# Altium integrated library TI Power Management Power Modules.IntLib: 831 symbols (part 43 of 44)
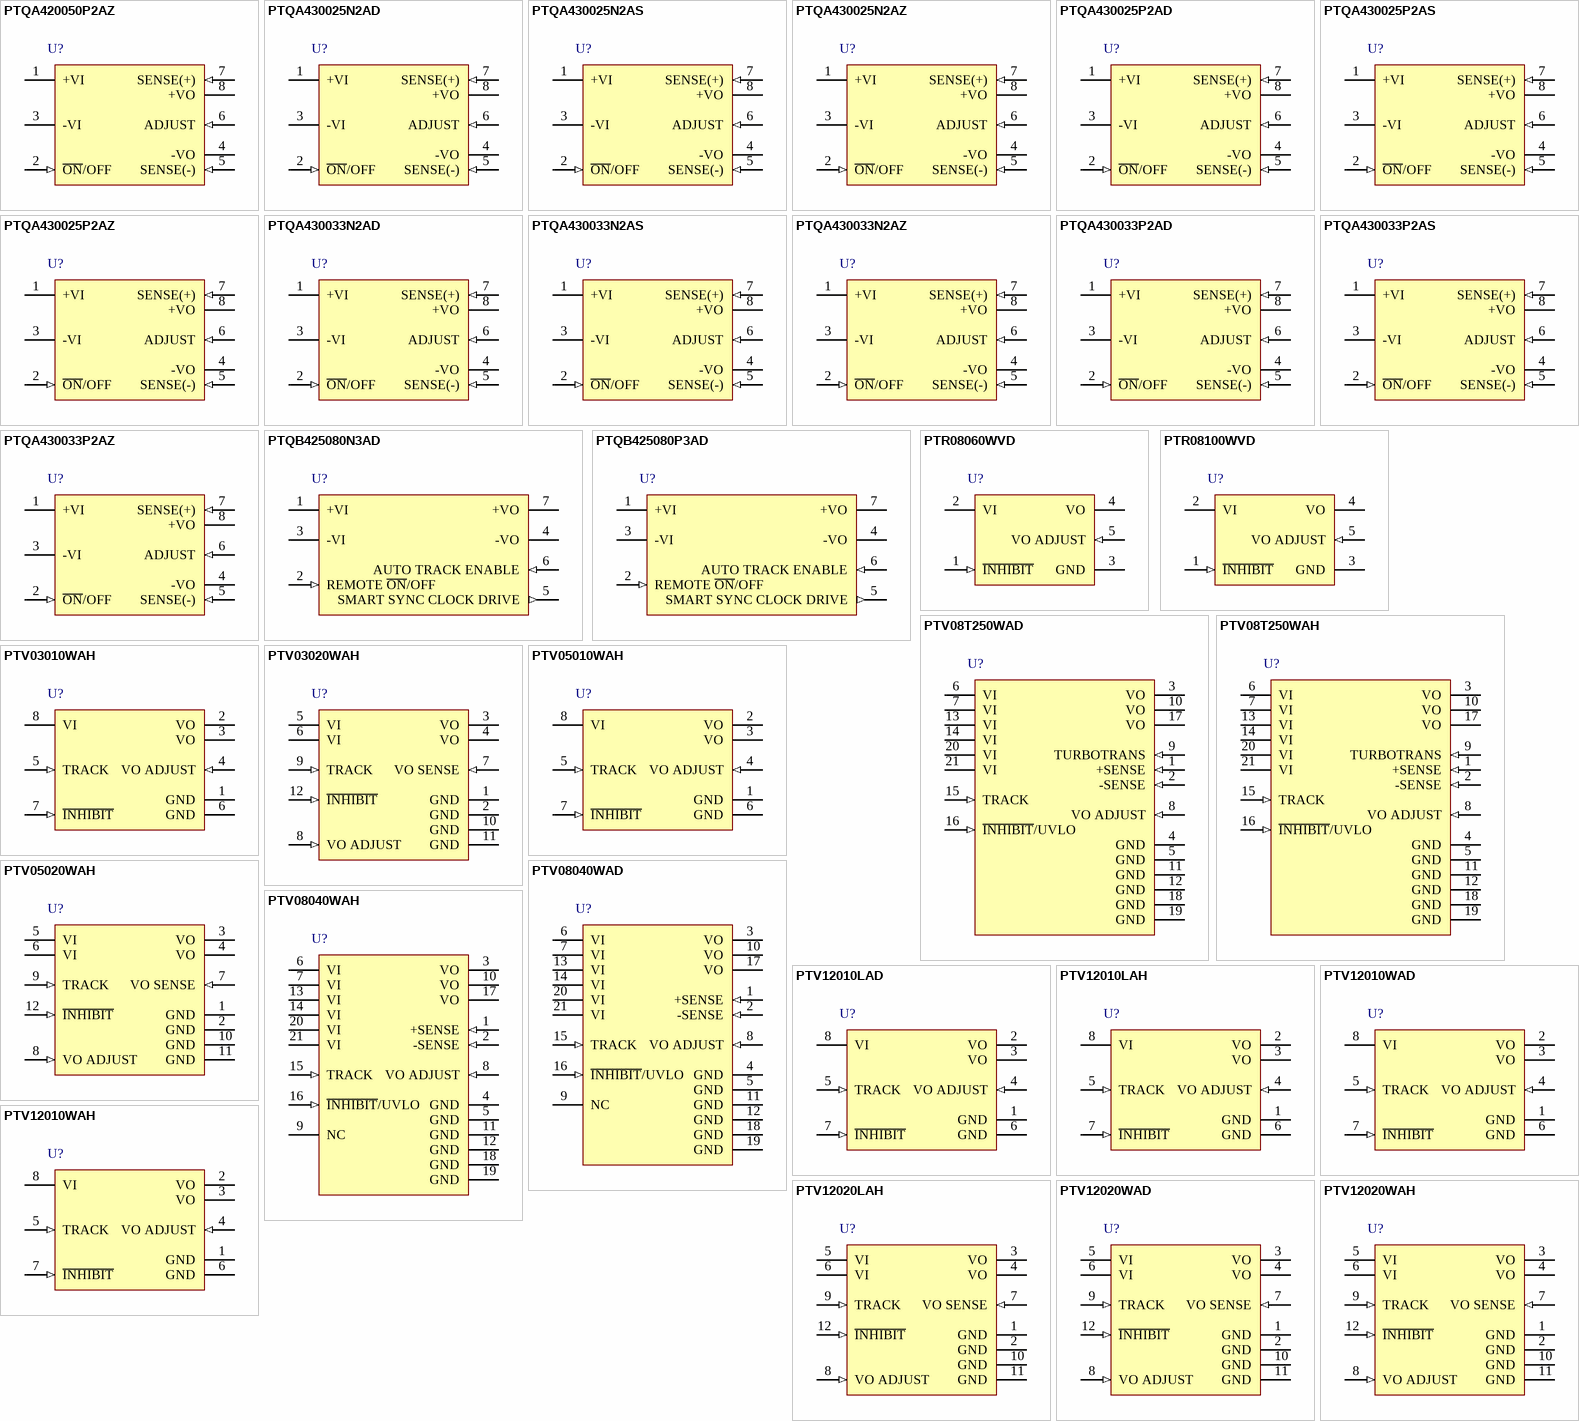
[diagram p65: symbols PTQA420050P2AZ to PTV12020WAH]

## PTR08100WVD
designator U?
10 A, 4.5 to 14 V Input, Non-Isolated, Wide Output, Adjustable Power Module, -40 to 85 degC, 5-pin Module (EDN5), Pb-Free (RoHS); Manufacturer: Texas Instruments; PartNumber: PTR08100WVD; Iout(Max)(A): 10; Regulated Outputs(#): 1; SubFamily: Step-Down (Buck) Module; Vin(Max)(V): 14; Vin(Min)(V): 4.5; VO Adjustable: TRUE; Vout(Max)(V): 5.5; Vout(Min)(V): 0.6; DatasheetVersion: SLTS284F; PackageVersion: 4208200/A; PackageReference: EDN5; PackageDescription: 5-Pin Plastic Special Shape, Body 16.51 x 10.41 mm; Supplier 1: Digi-Key; Supplier Part Number 1: 296-22773-5-ND; Supplier 2: Farnell; Supplier Part Number 2: 1755102; Supplier 3: Newark; Supplier Part Number 3: 93R5609; Supplier 4: Newark; Supplier Part Number 4: 61M8461; Supplier 5: Mouser; Supplier Part Number 5: 595-PTR08100WVD; Eco-Plan: Pb-Free (RoHS); Mounting Technology: Through Hole; ComponentLink1Description: Manufacturer URL; ComponentLink1URL: http://www.ti.com/; ComponentLink2Description: Datasheet; ComponentLink2URL: http://www.ti.com/general/docs/lit/getliterature.tsp?genericPartNumber=PTR08100W&fileType=pdf; ComponentLink3Description: Package Specification; ComponentLink3URL: http://www.ti.com/lit/ml/mpds303/mpds303.pdf; ComponentLink4Description: URL Link1; ComponentLink4URL: Samples URL:http://www.ti.com/product/ptr08100w
footprint TI-EDN5_V (Moudle, 5-Leads, Body 11.5x10.41mm, Pitch 1.7mm)
pins: 1 ~{INHIBIT} (in) "The Inhibit pin is an open-collector/drain-negative logic input that is referenced to GND. Applying a low-level ground signal to this input disables the module's output. When the Inhibit control is active, the input current (See Datasheet)", 2 VI (power) "The positive input voltage power node to the module, which is referenced to common GND.", 3 GND (power) "This is the common ground connection for the VI and VO power connections. It is also the 0 VDC reference for the Inhibit and VO Adjust control inputs.", 4 VO (power) "The regulated positive power output with respect to the GND node.", 5 VO ADJUST (in) "A 1% resistor must be connected between this pin and GND (pin 3) to set the output voltage of the module higher than 0.6 V. If left open-circuit, the output voltage defaults to this value. The temperature stability of the (See Datasheet)"

## PTV08T250WAD
designator U?
50 A, 8 to 14 V Input, Non-Isolated, Wide Output Adjust, Vertical Power Module with TurboTrans Technology, -40 to 85 degC, 21-pin Module (EAN21), Pb-Free (RoHS); Manufacturer: Texas Instruments; PartNumber: PTV08T250WAD; Iout(Max)(A): 50; Regulated Outputs(#): 1; SubFamily: Non-Isolated POL; Vin(Max)(V): 14; Vin(Min)(V): 8; VO Adjustable: TRUE; Vout(Max)(V): 3.6; Vout(Min)(V): 0.8; DatasheetVersion: SLTS260E; PackageVersion: 4207274/A; PackageReference: EAN21; PackageDescription: 21-Pin Plastic Special Shape, Body 24.13 x 58.42 mm; Supplier 1: Digi-Key; Supplier Part Number 1: 296-20529-ND; Supplier 2: Newark; Supplier Part Number 2: 66K4122; Supplier 3: Mouser; Supplier Part Number 3: 595-PTV08T250WAD; Eco-Plan: Pb-Free (RoHS); Mounting Technology: Surface Mount; ComponentLink1Description: Manufacturer URL; ComponentLink1URL: http://www.ti.com/; ComponentLink2Description: Datasheet; ComponentLink2URL: http://www.ti.com/general/docs/lit/getliterature.tsp?genericPartNumber=PTV08T250W&fileType=pdf; ComponentLink3Description: Package Specification; ComponentLink3URL: http://www.ti.com/lit/ml/mpds223/mpds223.pdf; ComponentLink4Description: URL Link1; ComponentLink4URL: Samples URL:http://www.ti.com/product/ptv08t250w#samples
footprint TI-EAN21_V (21-Leads Double Sided Module, Body 59.94x9.39mm)
pins: 1 +SENSE (in) "The sense inputs allow the regulation circuit to compensate for voltage drop between the module and the load. For optimal voltage accuracy, +Sense should be connected to VO. If it is left open, a low-value internal resistor (See Datasheet)", 2 -SENSE (in) "For optimal voltage accuracy, -Sense should be connected to the ground return at the load. If it is left open, a low-value internal resistor ensures that the output remains in regulation.", 3 VO (power) "The regulated positive power output with respect to GND", 4 GND (power) "This is the common ground connection for the VI and VO power connections. It is also the 0 Vdc reference for the control inputs.", 5 GND (power) "This is the common ground connection for the VI and VO power connections. It is also the 0 Vdc reference for the control inputs.", 6 VI (power) "The positive input voltage power node to the module, which is referenced to common GND", 7 VI (power) "The positive input voltage power node to the module, which is referenced to common GND", 8 VO ADJUST (in) "A 1%, 0.05-W resistor must be connected between this pin and GND to set the output voltage higher than the minimum value. The set-point range for the output voltage is from 0.8 V to 3.6 V. The resistor required for a given (See Datasheet)", 9 TURBOTRANS (in) "This input pin adjusts the transient response of the regulator. For a given value of output capacitance, a reduction in peak output voltage deviation and increased system stability is achieved by placing a resistor between (See Datasheet)", 10 VO (power) "The regulated positive power output with respect to GND", 11 GND (power) "This is the common ground connection for the VI and VO power connections. It is also the 0 Vdc reference for the control inputs.", 12 GND (power) "This is the common ground connection for the VI and VO power connections. It is also the 0 Vdc reference for the control inputs.", 13 VI (power) "The positive input voltage power node to the module, which is referenced to common GND", 14 VI (power) "The positive input voltage power node to the module, which is referenced to common GND", 15 TRACK (in) "This is an analog control input that allows the output voltage to follow another voltage during power up and power down sequences. The pin is active from 0 V, up to the nominal set-point voltage. Within this range, the (See Datasheet)", 16 ~{INHIBIT}/UVLO (in) "The Inhibit pin is an open-collector/drain negative logic input that is referenced to GND. Applying a low-level ground signal to this input disables the module’s output and turns off the output voltage. When the Inhibit (See Datasheet)", 17 VO (power) "The regulated positive power output with respect to GND", 18 GND (power) "This is the common ground connection for the VI and VO power connections. It is also the 0 Vdc reference for the control inputs.", 19 GND (power) "This is the common ground connection for the VI and VO power connections. It is also the 0 Vdc reference for the control inputs.", 20 VI (power) "The positive input voltage power node to the module, which is referenced to common GND", 21 VI (power) "The positive input voltage power node to the module, which is referenced to common GND"

## PTV08T250WAH
designator U?
50 A, 8 to 14 V Input, Non-Isolated, Wide Output Adjust, Vertical Power Module with TurboTrans Technology, -40 to 85 degC, 21-pin Module (EAN21); Manufacturer: Texas Instruments; PartNumber: PTV08T250WAH; Eco-Plan: TBD; Iout(Max)(A): 50; Regulated Outputs(#): 1; SubFamily: Non-Isolated POL; Vin(Max)(V): 14; Vin(Min)(V): 8; VO Adjustable: TRUE; Vout(Max)(V): 3.6; Vout(Min)(V): 0.8; DatasheetVersion: SLTS260E; PackageVersion: 4207274/A; PackageReference: EAN21; PackageDescription: 21-Pin Plastic Special Shape, Body 24.13 x 58.42 mm; Supplier 1: Digi-Key; Supplier Part Number 1: 296-20530-ND; Supplier 2: Newark; Supplier Part Number 2: 66K4123; Supplier 3: Mouser; Supplier Part Number 3: 595-PTV08T250WAH; Mounting Technology: Surface Mount; ComponentLink1Description: Manufacturer URL; ComponentLink1URL: http://www.ti.com/; ComponentLink2Description: Datasheet; ComponentLink2URL: http://www.ti.com/general/docs/lit/getliterature.tsp?genericPartNumber=PTV08T250W&fileType=pdf; ComponentLink3Description: Package Specification; ComponentLink3URL: http://www.ti.com/lit/ml/mpds223/mpds223.pdf; ComponentLink4Description: URL Link1; ComponentLink4URL: Samples URL:http://www.ti.com/product/ptv08t250w#samples
footprint TI-EAN21_V (21-Leads Double Sided Module, Body 59.94x9.39mm)
pins: 1 +SENSE (in) "The sense inputs allow the regulation circuit to compensate for voltage drop between the module and the load. For optimal voltage accuracy, +Sense should be connected to VO. If it is left open, a low-value internal resistor (See Datasheet)", 2 -SENSE (in) "For optimal voltage accuracy, -Sense should be connected to the ground return at the load. If it is left open, a low-value internal resistor ensures that the output remains in regulation.", 3 VO (power) "The regulated positive power output with respect to GND", 4 GND (power) "This is the common ground connection for the VI and VO power connections. It is also the 0 Vdc reference for the control inputs.", 5 GND (power) "This is the common ground connection for the VI and VO power connections. It is also the 0 Vdc reference for the control inputs.", 6 VI (power) "The positive input voltage power node to the module, which is referenced to common GND", 7 VI (power) "The positive input voltage power node to the module, which is referenced to common GND", 8 VO ADJUST (in) "A 1%, 0.05-W resistor must be connected between this pin and GND to set the output voltage higher than the minimum value. The set-point range for the output voltage is from 0.8 V to 3.6 V. The resistor required for a given (See Datasheet)", 9 TURBOTRANS (in) "This input pin adjusts the transient response of the regulator. For a given value of output capacitance, a reduction in peak output voltage deviation and increased system stability is achieved by placing a resistor between (See Datasheet)", 10 VO (power) "The regulated positive power output with respect to GND", 11 GND (power) "This is the common ground connection for the VI and VO power connections. It is also the 0 Vdc reference for the control inputs.", 12 GND (power) "This is the common ground connection for the VI and VO power connections. It is also the 0 Vdc reference for the control inputs.", 13 VI (power) "The positive input voltage power node to the module, which is referenced to common GND", 14 VI (power) "The positive input voltage power node to the module, which is referenced to common GND", 15 TRACK (in) "This is an analog control input that allows the output voltage to follow another voltage during power up and power down sequences. The pin is active from 0 V, up to the nominal set-point voltage. Within this range, the (See Datasheet)", 16 ~{INHIBIT}/UVLO (in) "The Inhibit pin is an open-collector/drain negative logic input that is referenced to GND. Applying a low-level ground signal to this input disables the module’s output and turns off the output voltage. When the Inhibit (See Datasheet)", 17 VO (power) "The regulated positive power output with respect to GND", 18 GND (power) "This is the common ground connection for the VI and VO power connections. It is also the 0 Vdc reference for the control inputs.", 19 GND (power) "This is the common ground connection for the VI and VO power connections. It is also the 0 Vdc reference for the control inputs.", 20 VI (power) "The positive input voltage power node to the module, which is referenced to common GND", 21 VI (power) "The positive input voltage power node to the module, which is referenced to common GND"

## PTV03010WAH
designator U?
8 A, 3.3 V Input Non-Isolated Wide-Output Adjust with Auto-Track, -40 to 85 degC, 8-pin Module (EVA8), Pb-Free (RoHS); Manufacturer: Texas Instruments; PartNumber: PTV03010WAH; Iout(Max)(A): 8; Regulated Outputs(#): 1; SubFamily: Step-Down (Buck) Module; Vin(Max)(V): 3.65; Vin(Min)(V): 2.95; VO Adjustable: TRUE; Vout(Max)(V): 2.5; Vout(Min)(V): 0.8; DatasheetVersion: SLTS241A; PackageVersion: 4205909/A; PackageReference: EVA8; PackageDescription: 8-Pin Plastic Special Shape, Body 10.15 x 22.86 mm; Supplier 1: Digi-Key; Supplier Part Number 1: 296-20986-ND; Supplier 2: Newark; Supplier Part Number 2: 24K4729; Supplier 3: Mouser; Supplier Part Number 3: 595-PTV03010WAH; Eco-Plan: Pb-Free (RoHS); Mounting Technology: Through Hole; ComponentLink1Description: Manufacturer URL; ComponentLink1URL: http://www.ti.com/; ComponentLink2Description: Datasheet; ComponentLink2URL: http://www.ti.com/general/docs/lit/getliterature.tsp?genericPartNumber=PTV03010W&fileType=pdf; ComponentLink3Description: Package Specification; ComponentLink3URL: http://www.ti.com/lit/ml/mpds163/mpds163.pdf; ComponentLink4Description: URL Link1; ComponentLink4URL: Samples URL:http://www.ti.com/product/ptv03010w
footprint TI-EVA8_V (Module, 8-Leads, Body 22.86x8.38mm)
pins: 1 GND (power) "This is the common ground connection for the VI and VO power connections. It is also the 0 VDC reference for the control inputs.", 2 VO (power) "The regulated positive power output with respect to the GND node.", 3 VO (power) "The regulated positive power output with respect to the GND node.", 4 VO ADJUST (in) "A 1% resistor must be connected directly between this pin and GND (pin 1) to set the output voltage of the module higher than its lowest value. The temperature stability of the resistor should be 100 ppm/degreesC (or better).(See Datasheet)", 5 TRACK (in) "This is an analog control input that enables the output voltage to follow an external voltage. This pin becomes active typically 20 ms after the input voltage has been applied, and allows direct control of the output voltage (See Datasheet)", 6 GND (power) "This is the common ground connection for the VI and VO power connections. It is also the 0 VDC reference for the control inputs.", 7 ~{INHIBIT} (in) "The Inhibit pin is an open-collector/drain, active-low input that is referenced to GND. Applying a low-level ground signal to this input disables the module’s output and turns off the output voltage. When the Inhibit control (See Datasheet)", 8 VI (power) "The positive input voltage power node to the module, which is referenced to common GND."

## PTV03020WAH
designator U?
18 A, 3.3 V Input Non-Isolated Wide-Output Adjust SIP Module with AutoTrack, -40 to 85 degC, 12-pin Module (EVC12), Pb-Free (RoHS); Manufacturer: Texas Instruments; PartNumber: PTV03020WAH; Iout(Max)(A): 18; Regulated Outputs(#): 1; SubFamily: Step-Down (Buck) Module; Vin(Max)(V): 3.6; Vin(Min)(V): 2.95; VO Adjustable: TRUE; Vout(Max)(V): 2.5; Vout(Min)(V): 0.8; DatasheetVersion: SLTS243A; PackageVersion: 4205910/B; PackageReference: EVC12; PackageDescription: 12-Pin Plastic Special Shape, Body 12.7 x 44.45 mm; Supplier 1: Digi-Key; Supplier Part Number 1: 296-20987-ND; Supplier 2: Newark; Supplier Part Number 2: 24K4730; Supplier 3: Mouser; Supplier Part Number 3: 595-PTV03020WAH; Eco-Plan: Pb-Free (RoHS); Mounting Technology: Surface Mount; ComponentLink1Description: Manufacturer URL; ComponentLink1URL: http://www.ti.com/; ComponentLink2Description: Datasheet; ComponentLink2URL: http://www.ti.com/general/docs/lit/getliterature.tsp?genericPartNumber=PTV03020W&fileType=pdf; ComponentLink3Description: Package Specification; ComponentLink3URL: http://www.ti.com/lit/ml/mpds164a/mpds164a.pdf; ComponentLink4Description: URL Link1; ComponentLink4URL: Samples URL:http://www.ti.com/product/ptv03020w
footprint TI-EVC12_V (12-Leads Double Sided Module, Body 44.45x9.39mm)
pins: 1 GND (power) "This  is the common ground connection for the VI and VO power connections. It is also the 0-Vdc reference for the control inputs.", 2 GND (power) "This  is the common ground connection for the VI and VO power connections. It is also the 0-Vdc reference for the control inputs.", 3 VO (power) "The regulated positive power output with respect to the GND node.", 4 VO (power) "The regulated positive power output with respect to the GND node.", 5 VI (power) "The positive input voltage power node to the module, which is referenced to common GND.", 6 VI (power) "The positive input voltage power node to the module, which is referenced to common GND.", 7 VO SENSE (in) "The sense input allows the regulation circuit to compensate for voltage drop between the module and the load. For optime voltage accuracy VO Sense should be connected to VO . It can also be left disconnected.", 8 VO ADJUST (in) "A 1% resistor must be connected directly between this pin and GND (pin 1 or 2) to set the output voltage of the module higher than its lowest value. The temperature stability of the resistor should be 100 ppm/degreesC (or (See Datasheet)", 9 TRACK (in) "This is an analog control input that enables the output voltage to follow an external voltage. This pin becomes active typically 20 ms after the input voltage has been applied, and allows direct control of the output voltage (See Datasheet)", 10 GND (power) "This  is the common ground connection for the VI and VO power connections. It is also the 0-Vdc reference for the control inputs.", 11 GND (power) "This  is the common ground connection for the VI and VO power connections. It is also the 0-Vdc reference for the control inputs.", 12 ~{INHIBIT} (in) "The Inhibit pin is an open-collector/drain, active-low input that is referenced to GND. Applying a low-level ground signal to this input disables the module's output and turns off the output voltage. when the Inhibit control (See Datasheet)"

## PTV05010WAH
designator U?
8 A, 5 V Input Non-Isolated Wide-Output Adjust SIP Module with Auto-Track, -40 to 85 degC, 8-pin Module (EVA8), Pb-Free (RoHS); Manufacturer: Texas Instruments; PartNumber: PTV05010WAH; Iout(Max)(A): 8; Regulated Outputs(#): 1; SubFamily: Step-Down (Buck) Module; Vin(Max)(V): 5.5; Vin(Min)(V): 4.5; VO Adjustable: TRUE; Vout(Max)(V): 3.6; Vout(Min)(V): 0.8; DatasheetVersion: SLTS242A; PackageVersion: 4205909/A; PackageReference: EVA8; PackageDescription: 8-Pin Plastic Special Shape, Body 10.15 x 22.86 mm; Supplier 1: Digi-Key; Supplier Part Number 1: 296-20988-ND; Supplier 2: Newark; Supplier Part Number 2: 24K4732; Supplier 3: Mouser; Supplier Part Number 3: 595-PTV05010WAH; Eco-Plan: Pb-Free (RoHS); Mounting Technology: Through Hole; ComponentLink1Description: Manufacturer URL; ComponentLink1URL: http://www.ti.com/; ComponentLink2Description: Datasheet; ComponentLink2URL: http://www.ti.com/general/docs/lit/getliterature.tsp?genericPartNumber=PTV05010W&fileType=pdf; ComponentLink3Description: Package Specification; ComponentLink3URL: http://www.ti.com/lit/ml/mpds163/mpds163.pdf; ComponentLink4Description: URL Link1; ComponentLink4URL: Samples URL:http://www.ti.com/product/ptv05010w
footprint TI-EVA8_V (Module, 8-Leads, Body 22.86x8.38mm)
pins: 1 GND (power) "This is the common ground connection for the VI and VO power connections. It is also the 0 VDC reference for the control inputs.", 2 VO (power) "The regulated positive power output with respect to the GND node.", 3 VO (power) "The regulated positive power output with respect to the GND node.", 4 VO ADJUST (in) "A 1% resistor must be connected directly between this pin and GND (pin 1) to set the output voltage of the module higher than its lowest value. The temperature stability of the resistor should be 100 ppm/degreesC (or better).(See Datasheet)", 5 TRACK (in) "This is an analog control input that enables the output voltage to follow an external voltage. This pin becomes active typically 20 ms after the input voltage has been applied, and allows direct control of the output voltage (See Datasheet)", 6 GND (power) "This is the common ground connection for the VI and VO power connections. It is also the 0 VDC reference for the control inputs.", 7 ~{INHIBIT} (in) "The Inhibit pin is an open-collector/drain, active-low input that is referenced to GND. Applying a low-level ground signal to this input disables the module’s output and turns off the output voltage. When the Inhibit control (See Datasheet)", 8 VI (power) "The positive input voltage power node to the module, which is referenced to common GND."

## PTV05020WAH
designator U?
18 A, 5 V Input, Non-Isolated Wide Adjust SIP Module, -40 to 85 degC, 12-pin Module (EVC12), Pb-Free (RoHS); Manufacturer: Texas Instruments; PartNumber: PTV05020WAH; Iout(Max)(A): 18; Regulated Outputs(#): 1; SubFamily: Step-Down (Buck) Module; Vin(Max)(V): 5.5; Vin(Min)(V): 4.5; VO Adjustable: TRUE; Vout(Max)(V): 3.6; Vout(Min)(V): 0.8; DatasheetVersion: SLTS232C; PackageVersion: 4205910/B; PackageReference: EVC12; PackageDescription: 12-Pin Plastic Special Shape, Body 12.7 x 44.45 mm; Supplier 1: Digi-Key; Supplier Part Number 1: 296-20526-ND; Supplier 2: Newark; Supplier Part Number 2: 24K4733; Supplier 3: Mouser; Supplier Part Number 3: 595-PTV05020WAH; Eco-Plan: Pb-Free (RoHS); Mounting Technology: Surface Mount; ComponentLink1Description: Manufacturer URL; ComponentLink1URL: http://www.ti.com/; ComponentLink2Description: Datasheet; ComponentLink2URL: http://www.ti.com/general/docs/lit/getliterature.tsp?genericPartNumber=PTV05020W&fileType=pdf; ComponentLink3Description: Package Specification; ComponentLink3URL: http://www.ti.com/lit/ml/mpds164a/mpds164a.pdf; ComponentLink4Description: URL Link1; ComponentLink4URL: Samples URL:http://www.ti.com/product/ptv05020w
footprint TI-EVC12_V (12-Leads Double Sided Module, Body 44.45x9.39mm)
pins: 1 GND (power) "This  is the common ground connection for the VI and VO power connections. It is also the 0-Vdc reference for the control inputs.", 2 GND (power) "This  is the common ground connection for the VI and VO power connections. It is also the 0-Vdc reference for the control inputs.", 3 VO (power) "The regulated positive power output with respect to the GND node.", 4 VO (power) "The regulated positive power output with respect to the GND node.", 5 VI (power) "The positive input voltage power node to the module, which is referenced to common GND.", 6 VI (power) "The positive input voltage power node to the module, which is referenced to common GND.", 7 VO SENSE (in) "The sense input allows the regulation circuit to compensate for voltage drop between the module and the load. For optime voltage accuracy VO Sense should be connected to VO . It can also be left disconnected.", 8 VO ADJUST (in) "A 1% resistor must be connected directly between this pin and GND (pin 1 or 2) to set the output voltage of the module higher than its lowest value. The temperature stability of the resistor should be 100 ppm/degreesC (or (See Datasheet)", 9 TRACK (in) "This is an analog control input that enables the output voltage to follow an external voltage. This pin becomes active typically 20 ms after the input voltage has been applied, and allows direct control of the output voltage (See Datasheet)", 10 GND (power) "This  is the common ground connection for the VI and VO power connections. It is also the 0-Vdc reference for the control inputs.", 11 GND (power) "This  is the common ground connection for the VI and VO power connections. It is also the 0-Vdc reference for the control inputs.", 12 ~{INHIBIT} (in) "The Inhibit pin is an open-collector/drain, active-low input that is referenced to GND. Applying a low-level ground signal to this input disables the module's output and turns off the output voltage. when the Inhibit control (See Datasheet)"

## PTV08040WAD
designator U?
50 A, 8 to 14 V Input, Non-Isolated, Wide-Output Adjust, Vertical Power Module, -40 to 85 degC, 21-pin Module (EAN21), Pb-Free (RoHS); Manufacturer: Texas Instruments; PartNumber: PTV08040WAD; Iout(Max)(A): 50; Regulated Outputs(#): 1; SubFamily: Non-Isolated POL; Vin(Max)(V): 14; Vin(Min)(V): 8; VO Adjustable: TRUE; Vout(Max)(V): 3.6; Vout(Min)(V): 0.8; DatasheetVersion: SLTS257B; PackageVersion: 4207274/A; PackageReference: EAN21; PackageDescription: 21-Pin Plastic Special Shape, Body 24.13 x 58.42 mm; Supplier 1: Digi-Key; Supplier Part Number 1: 296-20527-ND; Supplier 2: Newark; Supplier Part Number 2: 63K6094; Supplier 3: Mouser; Supplier Part Number 3: 595-PTV08040WAD; Eco-Plan: Pb-Free (RoHS); Mounting Technology: Surface Mount; ComponentLink1Description: Manufacturer URL; ComponentLink1URL: http://www.ti.com/; ComponentLink2Description: Datasheet; ComponentLink2URL: http://www.ti.com/general/docs/lit/getliterature.tsp?genericPartNumber=PTV08040W&fileType=pdf; ComponentLink3Description: Package Specification; ComponentLink3URL: http://www.ti.com/lit/ml/mpds223/mpds223.pdf; ComponentLink4Description: URL Link1; ComponentLink4URL: Samples URL:http://www.ti.com/product/ptv08040w#samples
footprint TI-EAN21_V (21-Leads Double Sided Module, Body 59.94x9.39mm)
pins: 1 +SENSE (in) "The sense inputs allow the regulation circuit to compensate for voltage drop between the module and the load. For optimal voltage accuracy, +Sense should be connected to VO. If it is left open, a low-value internal resistor (See Datasheet)", 2 -SENSE (in) "For optimal voltage accuracy, -Sense should be connected to the ground return at the load. If it is left open, a low-value internal resistor ensures that the output remains in regulation.", 3 VO (power) "The regulated positive power output with respect to GND", 4 GND (power) "This is the common ground connection for the VI and VO power connections. It is also the 0 Vdc reference for the control inputs.", 5 GND (power) "This is the common ground connection for the VI and VO power connections. It is also the 0 Vdc reference for the control inputs.", 6 VI (power) "The positive input voltage power node to the module, which is referenced to common GND", 7 VI (power) "The positive input voltage power node to the module, which is referenced to common GND", 8 VO ADJUST (in) "A 1%, 0.05-W resistor must be connected between this pin and GND to set the output voltage higher than the minimum value. The set-point range for the output voltage is from 0.8 V to 3.6 V. The resistor required for a given (See Datasheet)", 9 NC "No Connection", 10 VO (power) "The regulated positive power output with respect to GND", 11 GND (power) "This is the common ground connection for the VI and VO power connections. It is also the 0 Vdc reference for the control inputs.", 12 GND (power) "This is the common ground connection for the VI and VO power connections. It is also the 0 Vdc reference for the control inputs.", 13 VI (power) "The positive input voltage power node to the module, which is referenced to common GND", 14 VI (power) "The positive input voltage power node to the module, which is referenced to common GND", 15 TRACK (in) "This is an analog control input that allows the output voltage to follow another voltage during power up and power down sequences. The pin is active from 0 V, up to the nominal set-point voltage. Within this range, the (See Datasheet)", 16 ~{INHIBIT}/UVLO (in) "The Inhibit pin is an open-collector/drain negative logic input that is referenced to GND. Applying a low-level ground signal to this input disables the module’s output and turns off the output voltage. When the Inhibit (See Datasheet)", 17 VO (power) "The regulated positive power output with respect to GND", 18 GND (power) "This is the common ground connection for the VI and VO power connections. It is also the 0 Vdc reference for the control inputs.", 19 GND (power) "This is the common ground connection for the VI and VO power connections. It is also the 0 Vdc reference for the control inputs.", 20 VI (power) "The positive input voltage power node to the module, which is referenced to common GND", 21 VI (power) "The positive input voltage power node to the module, which is referenced to common GND"

## PTV08040WAH
designator U?
50 A, 8 to 14 V Input, Non-Isolated, Wide-Output Adjust, Vertical Power Module, -40 to 85 degC, 21-pin Module (EAN21); Manufacturer: Texas Instruments; PartNumber: PTV08040WAH; Eco-Plan: TBD; Iout(Max)(A): 50; Regulated Outputs(#): 1; SubFamily: Non-Isolated POL; Vin(Max)(V): 14; Vin(Min)(V): 8; VO Adjustable: TRUE; Vout(Max)(V): 3.6; Vout(Min)(V): 0.8; DatasheetVersion: SLTS257B; PackageVersion: 4207274/A; PackageReference: EAN21; PackageDescription: 21-Pin Plastic Special Shape, Body 24.13 x 58.42 mm; Supplier 1: Digi-Key; Supplier Part Number 1: 296-20528-ND; Supplier 2: Newark; Supplier Part Number 2: 63K6095; Supplier 3: Mouser; Supplier Part Number 3: 595-PTV08040WAH; Mounting Technology: Surface Mount; ComponentLink1Description: Manufacturer URL; ComponentLink1URL: http://www.ti.com/; ComponentLink2Description: Datasheet; ComponentLink2URL: http://www.ti.com/general/docs/lit/getliterature.tsp?genericPartNumber=PTV08040W&fileType=pdf; ComponentLink3Description: Package Specification; ComponentLink3URL: http://www.ti.com/lit/ml/mpds223/mpds223.pdf; ComponentLink4Description: URL Link1; ComponentLink4URL: Samples URL:http://www.ti.com/product/ptv08040w#samples
footprint TI-EAN21_V (21-Leads Double Sided Module, Body 59.94x9.39mm)
pins: 1 +SENSE (in) "The sense inputs allow the regulation circuit to compensate for voltage drop between the module and the load. For optimal voltage accuracy, +Sense should be connected to VO. If it is left open, a low-value internal resistor (See Datasheet)", 2 -SENSE (in) "For optimal voltage accuracy, -Sense should be connected to the ground return at the load. If it is left open, a low-value internal resistor ensures that the output remains in regulation.", 3 VO (power) "The regulated positive power output with respect to GND", 4 GND (power) "This is the common ground connection for the VI and VO power connections. It is also the 0 Vdc reference for the control inputs.", 5 GND (power) "This is the common ground connection for the VI and VO power connections. It is also the 0 Vdc reference for the control inputs.", 6 VI (power) "The positive input voltage power node to the module, which is referenced to common GND", 7 VI (power) "The positive input voltage power node to the module, which is referenced to common GND", 8 VO ADJUST (in) "A 1%, 0.05-W resistor must be connected between this pin and GND to set the output voltage higher than the minimum value. The set-point range for the output voltage is from 0.8 V to 3.6 V. The resistor required for a given (See Datasheet)", 9 NC "No Connection", 10 VO (power) "The regulated positive power output with respect to GND", 11 GND (power) "This is the common ground connection for the VI and VO power connections. It is also the 0 Vdc reference for the control inputs.", 12 GND (power) "This is the common ground connection for the VI and VO power connections. It is also the 0 Vdc reference for the control inputs.", 13 VI (power) "The positive input voltage power node to the module, which is referenced to common GND", 14 VI (power) "The positive input voltage power node to the module, which is referenced to common GND", 15 TRACK (in) "This is an analog control input that allows the output voltage to follow another voltage during power up and power down sequences. The pin is active from 0 V, up to the nominal set-point voltage. Within this range, the (See Datasheet)", 16 ~{INHIBIT}/UVLO (in) "The Inhibit pin is an open-collector/drain negative logic input that is referenced to GND. Applying a low-level ground signal to this input disables the module’s output and turns off the output voltage. When the Inhibit (See Datasheet)", 17 VO (power) "The regulated positive power output with respect to GND", 18 GND (power) "This is the common ground connection for the VI and VO power connections. It is also the 0 Vdc reference for the control inputs.", 19 GND (power) "This is the common ground connection for the VI and VO power connections. It is also the 0 Vdc reference for the control inputs.", 20 VI (power) "The positive input voltage power node to the module, which is referenced to common GND", 21 VI (power) "The positive input voltage power node to the module, which is referenced to common GND"

## PTV12010LAD
designator U?
0.8 to 1.8 V Vout, 8 A, 12 V Input Non-Isolated Wide Adjust SIP Module, -40 to 85 degC, 8-pin Module (EVA8), Pb-Free (RoHS); Manufacturer: Texas Instruments; PartNumber: PTV12010LAD; Iout(Max)(A): 8; Regulated Outputs(#): 1; SubFamily: Non-Isolated POL; Vin(Max)(V): 13.2; Vin(Min)(V): 10.8; VO Adjustable: TRUE; Vout(Max)(V): 1.8; Vout(Min)(V): 0.8; DatasheetVersion: SLTS234B; PackageVersion: 4205909/A; PackageReference: EVA8; PackageDescription: 8-Pin Plastic Special Shape, Body 10.15 x 22.86 mm; Supplier 1: Digi-Key; Supplier Part Number 1: 296-20989-ND; Supplier 2: Newark; Supplier Part Number 2: 61K1481; Supplier 3: Mouser; Supplier Part Number 3: 595-PTV12010LAD; Eco-Plan: Pb-Free (RoHS); Mounting Technology: Through Hole; ComponentLink1Description: Manufacturer URL; ComponentLink1URL: http://www.ti.com/; ComponentLink2Description: Datasheet; ComponentLink2URL: http://www.ti.com/general/docs/lit/getliterature.tsp?genericPartNumber=PTV12010L&fileType=pdf; ComponentLink3Description: Package Specification; ComponentLink3URL: http://www.ti.com/lit/ml/mpds163/mpds163.pdf; ComponentLink4Description: URL Link1; ComponentLink4URL: Samples URL:http://www.ti.com/product/ptv12010l#samples
footprint TI-EVA8_V (Module, 8-Leads, Body 22.86x8.38mm)
pins: 1 GND (power) "This is the common ground connection for the VI and VO power connections. It is also the 0 VDC reference for the control inputs.", 2 VO (power) "The regulated positive power output with respect to the GND node.", 3 VO (power) "The regulated positive power output with respect to the GND node.", 4 VO ADJUST (in) "A 1% resistor must be connected directly between this pin and GND (pin 1) to set the output voltage of the module higher than its lowest value. The temperature stability of the resistor should be 100 ppm/degreesC (or better).(See Datasheet)", 5 TRACK (in) "This is an analog control input that enables the output voltage to follow an external voltage. This pin becomes active typically 20 ms after the input voltage has been applied, and allows direct control of the output voltage (See Datasheet)", 6 GND (power) "This is the common ground connection for the VI and VO power connections. It is also the 0 VDC reference for the control inputs.", 7 ~{INHIBIT} (in) "The Inhibit pin is an open-collector/drain, active-low input that is referenced to GND. Applying a low-level ground signal to this input disables the module’s output and turns off the output voltage. When the Inhibit control (See Datasheet)", 8 VI (power) "The positive input voltage power node to the module, which is referenced to common GND."

## PTV12010LAH
designator U?
0.8 to 1.8 V Vout, 8 A, 12 V Input Non-Isolated Wide Adjust SIP Module, -40 to 85 degC, 8-pin Module (EVA8), Pb-Free (RoHS); Manufacturer: Texas Instruments; PartNumber: PTV12010LAH; Iout(Max)(A): 8; Regulated Outputs(#): 1; SubFamily: Non-Isolated POL; Vin(Max)(V): 13.2; Vin(Min)(V): 10.8; VO Adjustable: TRUE; Vout(Max)(V): 1.8; Vout(Min)(V): 0.8; DatasheetVersion: SLTS234B; PackageVersion: 4205909/A; PackageReference: EVA8; PackageDescription: 8-Pin Plastic Special Shape, Body 10.15 x 22.86 mm; Supplier 1: Digi-Key; Supplier Part Number 1: 296-19756-ND; Supplier 2: Newark; Supplier Part Number 2: 73J8284; Supplier 3: Mouser; Supplier Part Number 3: 595-PTV12010LAH; Eco-Plan: Pb-Free (RoHS); Mounting Technology: Through Hole; ComponentLink1Description: Manufacturer URL; ComponentLink1URL: http://www.ti.com/; ComponentLink2Description: Datasheet; ComponentLink2URL: http://www.ti.com/general/docs/lit/getliterature.tsp?genericPartNumber=PTV12010L&fileType=pdf; ComponentLink3Description: Package Specification; ComponentLink3URL: http://www.ti.com/lit/ml/mpds163/mpds163.pdf; ComponentLink4Description: URL Link1; ComponentLink4URL: Samples URL:http://www.ti.com/product/ptv12010l#samples
footprint TI-EVA8_V (Module, 8-Leads, Body 22.86x8.38mm)
pins: 1 GND (power) "This is the common ground connection for the VI and VO power connections. It is also the 0 VDC reference for the control inputs.", 2 VO (power) "The regulated positive power output with respect to the GND node.", 3 VO (power) "The regulated positive power output with respect to the GND node.", 4 VO ADJUST (in) "A 1% resistor must be connected directly between this pin and GND (pin 1) to set the output voltage of the module higher than its lowest value. The temperature stability of the resistor should be 100 ppm/degreesC (or better).(See Datasheet)", 5 TRACK (in) "This is an analog control input that enables the output voltage to follow an external voltage. This pin becomes active typically 20 ms after the input voltage has been applied, and allows direct control of the output voltage (See Datasheet)", 6 GND (power) "This is the common ground connection for the VI and VO power connections. It is also the 0 VDC reference for the control inputs.", 7 ~{INHIBIT} (in) "The Inhibit pin is an open-collector/drain, active-low input that is referenced to GND. Applying a low-level ground signal to this input disables the module’s output and turns off the output voltage. When the Inhibit control (See Datasheet)", 8 VI (power) "The positive input voltage power node to the module, which is referenced to common GND."

## PTV12010WAD
designator U?
1.2 to 5.5 V Vout, 8 A, 12 V Input Non-Isolated Wide Adjust SIP Module, -40 to 85 degC, 8-pin Module (EVA8), Pb-Free (RoHS); Manufacturer: Texas Instruments; PartNumber: PTV12010WAD; Iout(Max)(A): 8; Regulated Outputs(#): 1; SubFamily: Non-Isolated POL; Vin(Max)(V): 13.2; Vin(Min)(V): 10.8; VO Adjustable: TRUE; Vout(Max)(V): 5.5; Vout(Min)(V): 1.2; DatasheetVersion: SLTS234B; PackageVersion: 4205909/A; PackageReference: EVA8; PackageDescription: 8-Pin Plastic Special Shape, Body 10.15 x 22.86 mm; Supplier 1: Digi-Key; Supplier Part Number 1: 296-27983-ND; Supplier 2: Newark; Supplier Part Number 2: 58K6017; Supplier 3: Mouser; Supplier Part Number 3: 595-PTV12010WAD; Eco-Plan: Pb-Free (RoHS); Mounting Technology: Through Hole; ComponentLink1Description: Manufacturer URL; ComponentLink1URL: http://www.ti.com/; ComponentLink2Description: Datasheet; ComponentLink2URL: http://www.ti.com/general/docs/lit/getliterature.tsp?genericPartNumber=PTV12010W&fileType=pdf; ComponentLink3Description: Package Specification; ComponentLink3URL: http://www.ti.com/lit/ml/mpds163/mpds163.pdf; ComponentLink4Description: URL Link1; ComponentLink4URL: Samples URL:http://www.ti.com/product/ptv12010w#samples
footprint TI-EVA8_V (Module, 8-Leads, Body 22.86x8.38mm)
pins: 1 GND (power) "This is the common ground connection for the VI and VO power connections. It is also the 0 VDC reference for the control inputs.", 2 VO (power) "The regulated positive power output with respect to the GND node.", 3 VO (power) "The regulated positive power output with respect to the GND node.", 4 VO ADJUST (in) "A 1% resistor must be connected directly between this pin and GND (pin 1) to set the output voltage of the module higher than its lowest value. The temperature stability of the resistor should be 100 ppm/degreesC (or better).(See Datasheet)", 5 TRACK (in) "This is an analog control input that enables the output voltage to follow an external voltage. This pin becomes active typically 20 ms after the input voltage has been applied, and allows direct control of the output voltage (See Datasheet)", 6 GND (power) "This is the common ground connection for the VI and VO power connections. It is also the 0 VDC reference for the control inputs.", 7 ~{INHIBIT} (in) "The Inhibit pin is an open-collector/drain, active-low input that is referenced to GND. Applying a low-level ground signal to this input disables the module’s output and turns off the output voltage. When the Inhibit control (See Datasheet)", 8 VI (power) "The positive input voltage power node to the module, which is referenced to common GND."

## PTV12010WAH
designator U?
1.2 to 5.5 V Vout, 8 A, 12 V Input Non-Isolated Wide Adjust SIP Module, -40 to 85 degC, 8-pin Module (EVA8), Pb-Free (RoHS); Manufacturer: Texas Instruments; PartNumber: PTV12010WAH; Iout(Max)(A): 8; Regulated Outputs(#): 1; SubFamily: Non-Isolated POL; Vin(Max)(V): 13.2; Vin(Min)(V): 10.8; VO Adjustable: TRUE; Vout(Max)(V): 5.5; Vout(Min)(V): 1.2; DatasheetVersion: SLTS234B; PackageVersion: 4205909/A; PackageReference: EVA8; PackageDescription: 8-Pin Plastic Special Shape, Body 10.15 x 22.86 mm; Supplier 1: Digi-Key; Supplier Part Number 1: 296-20531-ND; Supplier 2: Newark; Supplier Part Number 2: 73J8285; Supplier 3: Mouser; Supplier Part Number 3: 595-PTV12010WAH; Eco-Plan: Pb-Free (RoHS); Mounting Technology: Through Hole; ComponentLink1Description: Manufacturer URL; ComponentLink1URL: http://www.ti.com/; ComponentLink2Description: Datasheet; ComponentLink2URL: http://www.ti.com/general/docs/lit/getliterature.tsp?genericPartNumber=PTV12010W&fileType=pdf; ComponentLink3Description: Package Specification; ComponentLink3URL: http://www.ti.com/lit/ml/mpds163/mpds163.pdf; ComponentLink4Description: URL Link1; ComponentLink4URL: Samples URL:http://www.ti.com/product/ptv12010w#samples
footprint TI-EVA8_V (Module, 8-Leads, Body 22.86x8.38mm)
pins: 1 GND (power) "This is the common ground connection for the VI and VO power connections. It is also the 0 VDC reference for the control inputs.", 2 VO (power) "The regulated positive power output with respect to the GND node.", 3 VO (power) "The regulated positive power output with respect to the GND node.", 4 VO ADJUST (in) "A 1% resistor must be connected directly between this pin and GND (pin 1) to set the output voltage of the module higher than its lowest value. The temperature stability of the resistor should be 100 ppm/degreesC (or better).(See Datasheet)", 5 TRACK (in) "This is an analog control input that enables the output voltage to follow an external voltage. This pin becomes active typically 20 ms after the input voltage has been applied, and allows direct control of the output voltage (See Datasheet)", 6 GND (power) "This is the common ground connection for the VI and VO power connections. It is also the 0 VDC reference for the control inputs.", 7 ~{INHIBIT} (in) "The Inhibit pin is an open-collector/drain, active-low input that is referenced to GND. Applying a low-level ground signal to this input disables the module’s output and turns off the output voltage. When the Inhibit control (See Datasheet)", 8 VI (power) "The positive input voltage power node to the module, which is referenced to common GND."

## PTV12020LAH
designator U?
0.8 to 1.8 V Vout, 16 A, 12 V Input, Non-Isolated Wide Adjust SIP Module, -40 to 85 degC, 12-pin Module (EVC12), Pb-Free (RoHS); Manufacturer: Texas Instruments; PartNumber: PTV12020LAH; Iout(Max)(A): 16; Regulated Outputs(#): 1; SubFamily: Non-Isolated POL; Vin(Max)(V): 13.2; Vin(Min)(V): 10.8; VO Adjustable: TRUE; Vout(Max)(V): 1.8; Vout(Min)(V): 0.8; DatasheetVersion: SLTS231C; PackageVersion: 4205910/B; PackageReference: EVC12; PackageDescription: 12-Pin Plastic Special Shape, Body 12.7 x 44.45 mm; Supplier 1: Digi-Key; Supplier Part Number 1: 296-20532-ND; Supplier 2: Newark; Supplier Part Number 2: 71J7327; Supplier 3: Mouser; Supplier Part Number 3: 595-PTV12020LAH; Eco-Plan: Pb-Free (RoHS); Mounting Technology: Surface Mount; ComponentLink1Description: Manufacturer URL; ComponentLink1URL: http://www.ti.com/; ComponentLink2Description: Datasheet; ComponentLink2URL: http://www.ti.com/general/docs/lit/getliterature.tsp?genericPartNumber=PTV12020L&fileType=pdf; ComponentLink3Description: Package Specification; ComponentLink3URL: http://www.ti.com/lit/ml/mpds164a/mpds164a.pdf; ComponentLink4Description: URL Link1; ComponentLink4URL: Samples URL:http://www.ti.com/product/ptv12020l#samples
footprint TI-EVC12_V (12-Leads Double Sided Module, Body 44.45x9.39mm)
pins: 1 GND (power) "This  is the common ground connection for the VI and VO power connections. It is also the 0-Vdc reference for the control inputs.", 2 GND (power) "This  is the common ground connection for the VI and VO power connections. It is also the 0-Vdc reference for the control inputs.", 3 VO (power) "The regulated positive power output with respect to the GND node.", 4 VO (power) "The regulated positive power output with respect to the GND node.", 5 VI (power) "The positive input voltage power node to the module, which is referenced to common GND.", 6 VI (power) "The positive input voltage power node to the module, which is referenced to common GND.", 7 VO SENSE (in) "The sense input allows the regulation circuit to compensate for voltage drop between the module and the load. For optime voltage accuracy VO Sense should be connected to VO . It can also be left disconnected.", 8 VO ADJUST (in) "A 1% resistor must be connected directly between this pin and GND (pin 1 or 2) to set the output voltage of the module higher than its lowest value. The temperature stability of the resistor should be 100 ppm/degreesC (or (See Datasheet)", 9 TRACK (in) "This is an analog control input that enables the output voltage to follow an external voltage. This pin becomes active typically 20 ms after the input voltage has been applied, and allows direct control of the output voltage (See Datasheet)", 10 GND (power) "This  is the common ground connection for the VI and VO power connections. It is also the 0-Vdc reference for the control inputs.", 11 GND (power) "This  is the common ground connection for the VI and VO power connections. It is also the 0-Vdc reference for the control inputs.", 12 ~{INHIBIT} (in) "The Inhibit pin is an open-collector/drain, active-low input that is referenced to GND. Applying a low-level ground signal to this input disables the module's output and turns off the output voltage. when the Inhibit control (See Datasheet)"

## PTV12020WAD
designator U?
1.2 to 5.5 V Vout, 16 A, 12 V Input, Non-Isolated Wide Adjust SIP Module, -40 to 85 degC, 12-pin Module (EVC12), Pb-Free (RoHS); Manufacturer: Texas Instruments; PartNumber: PTV12020WAD; Iout(Max)(A): 16; Regulated Outputs(#): 1; SubFamily: Non-Isolated POL; Vin(Max)(V): 13.2; Vin(Min)(V): 10.8; VO Adjustable: TRUE; Vout(Max)(V): 5.5; Vout(Min)(V): 1.2; DatasheetVersion: SLTS231C; PackageVersion: 4205910/B; PackageReference: EVC12; PackageDescription: 12-Pin Plastic Special Shape, Body 12.7 x 44.45 mm; Supplier 1: Digi-Key; Supplier Part Number 1: 296-20533-ND; Supplier 2: Newark; Supplier Part Number 2: 61K1482; Supplier 3: Mouser; Supplier Part Number 3: 595-PTV12020WAD; Eco-Plan: Pb-Free (RoHS); Mounting Technology: Surface Mount; ComponentLink1Description: Manufacturer URL; ComponentLink1URL: http://www.ti.com/; ComponentLink2Description: Datasheet; ComponentLink2URL: http://www.ti.com/general/docs/lit/getliterature.tsp?genericPartNumber=PTV12020W&fileType=pdf; ComponentLink3Description: Package Specification; ComponentLink3URL: http://www.ti.com/lit/ml/mpds164a/mpds164a.pdf; ComponentLink4Description: URL Link1; ComponentLink4URL: Samples URL:http://www.ti.com/product/ptv12020w#samples
footprint TI-EVC12_V (12-Leads Double Sided Module, Body 44.45x9.39mm)
pins: 1 GND (power) "This  is the common ground connection for the VI and VO power connections. It is also the 0-Vdc reference for the control inputs.", 2 GND (power) "This  is the common ground connection for the VI and VO power connections. It is also the 0-Vdc reference for the control inputs.", 3 VO (power) "The regulated positive power output with respect to the GND node.", 4 VO (power) "The regulated positive power output with respect to the GND node.", 5 VI (power) "The positive input voltage power node to the module, which is referenced to common GND.", 6 VI (power) "The positive input voltage power node to the module, which is referenced to common GND.", 7 VO SENSE (in) "The sense input allows the regulation circuit to compensate for voltage drop between the module and the load. For optime voltage accuracy VO Sense should be connected to VO . It can also be left disconnected.", 8 VO ADJUST (in) "A 1% resistor must be connected directly between this pin and GND (pin 1 or 2) to set the output voltage of the module higher than its lowest value. The temperature stability of the resistor should be 100 ppm/degreesC (or (See Datasheet)", 9 TRACK (in) "This is an analog control input that enables the output voltage to follow an external voltage. This pin becomes active typically 20 ms after the input voltage has been applied, and allows direct control of the output voltage (See Datasheet)", 10 GND (power) "This  is the common ground connection for the VI and VO power connections. It is also the 0-Vdc reference for the control inputs.", 11 GND (power) "This  is the common ground connection for the VI and VO power connections. It is also the 0-Vdc reference for the control inputs.", 12 ~{INHIBIT} (in) "The Inhibit pin is an open-collector/drain, active-low input that is referenced to GND. Applying a low-level ground signal to this input disables the module's output and turns off the output voltage. when the Inhibit control (See Datasheet)"